# Altium footprint library PcbLib1.PcbLib: 42 footprints (part 2 of 3)
Each footprint in its own frame and in the unit in brackets; x right, y up, seen from the top. Pads: shape width x height; smd on the part's side, far side on the other; paste and mask are expansions set on the pad; w line width, h text height; cw(c..) or ccw(c..) is an arc to the next point about the centre after c.
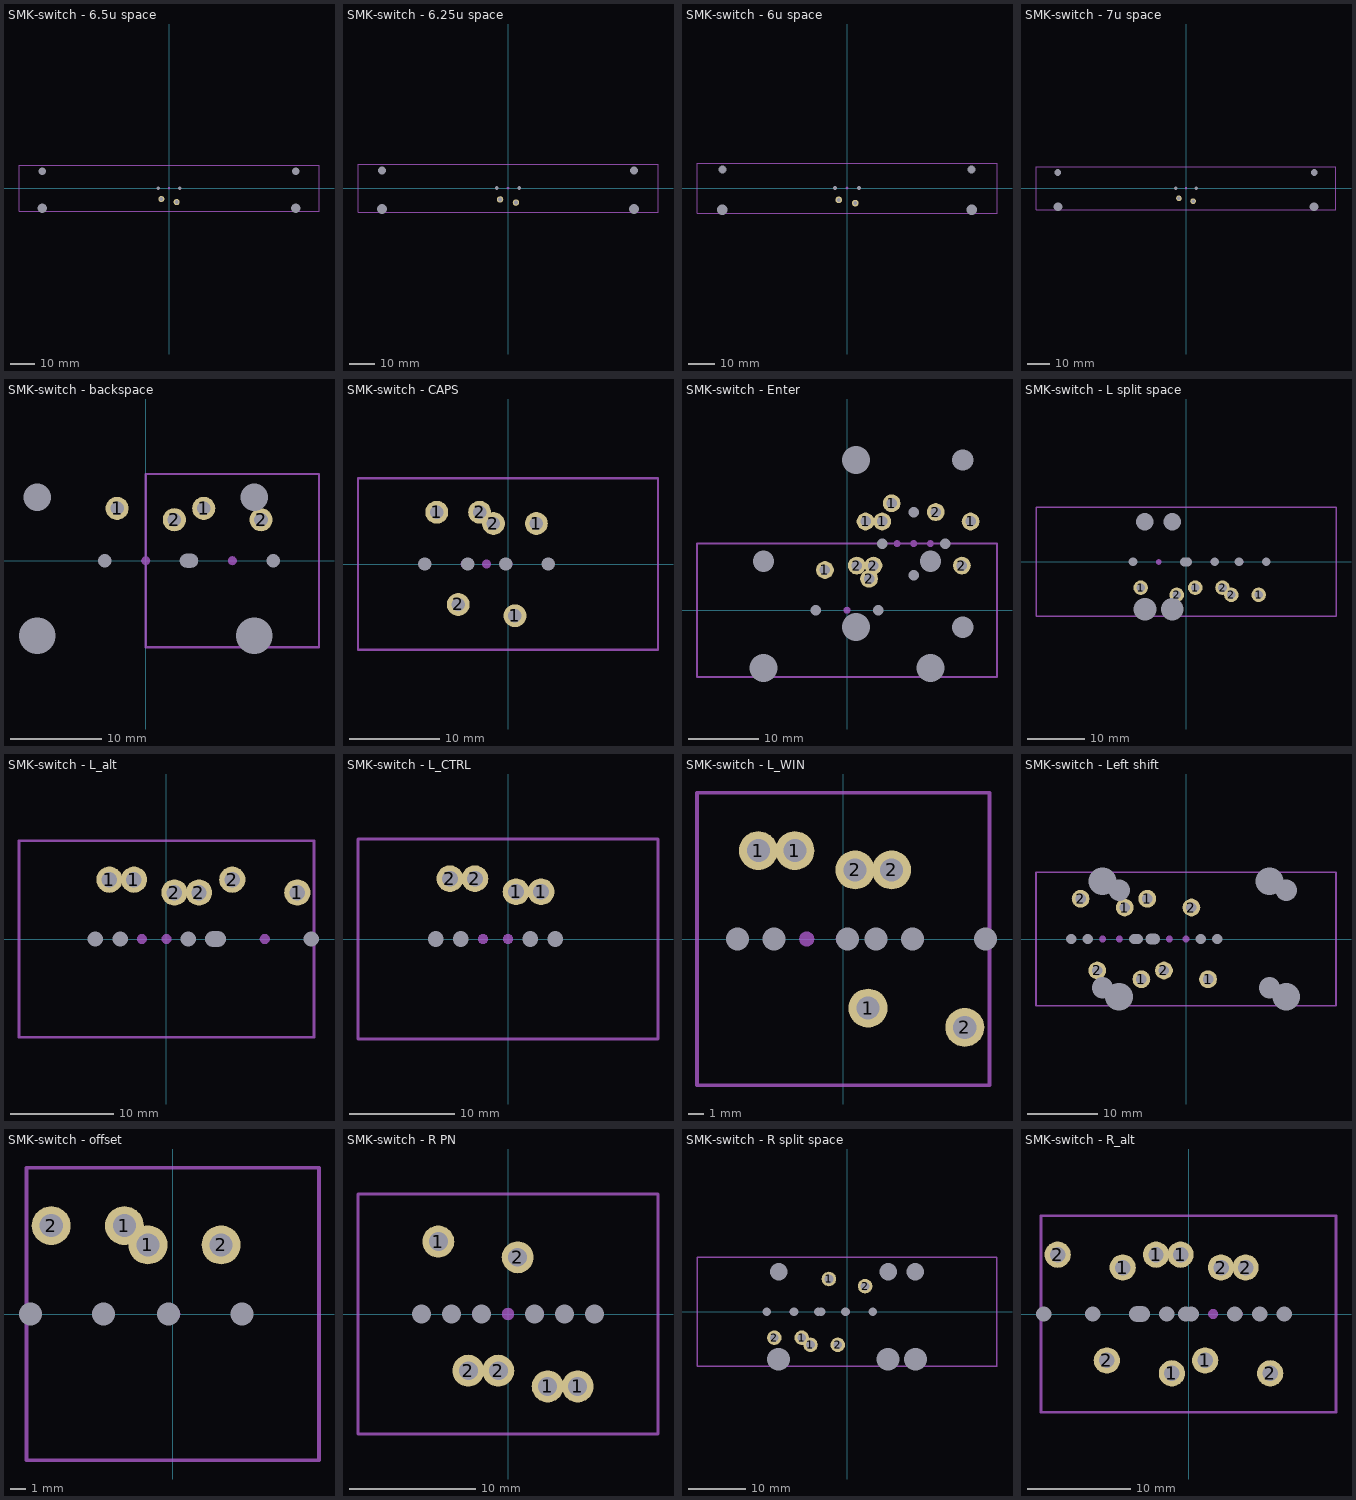
[diagram p1: the footprints below, top view; thin cyan lines are the x and y axes]

## SMK-switch - 6.5u space [mm]
pads (9):
  round 2.54 hole 1.499: 1(3.15,-5.75) 2(-3.15,-4.5)
  round 1.524 hole 3.988 unplated: ""(-52.25,-8.255) ""(52.25,-8.255)
  round 1.524 hole 3.048 unplated: ""(-52.25,6.985) ""(52.25,6.985)
  round 1 hole 1.5 unplated: ""(-4.5,0) ""(4.5,0)
  round 1 on Mech13: ""(0,0)
Mechanical 13:
  lines w0.254: -61.912,-9.525 -61.912,9.525 61.912,9.525 61.912,-9.525 -61.912,-9.525
  text ".Designator" at -3.575,-3.7 h0.7

## SMK-switch - 6.25u space [mm]
pads (9):
  round 2.54 hole 1.499: 1(3.15,-5.75) 2(-3.15,-4.5)
  round 1.524 hole 3.988 unplated: ""(-50,-8.255) ""(50,-8.255)
  round 1.524 hole 3.048 unplated: ""(-50,6.985) ""(50,6.985)
  round 1 hole 1.5 unplated: ""(-4.5,0) ""(4.5,0)
  round 1 on Mech13: ""(0,0)
Mechanical 13:
  lines w0.254: -59.531,-9.525 -59.531,9.525 59.531,9.525 59.531,-9.525 -59.531,-9.525
  text ".Designator" at -3.575,-3.7 h0.7

## SMK-switch - 6u space [mm]
pads (9):
  round 2.54 hole 1.499: 1(3.15,-5.75) 2(-3.15,-4.5)
  round 1.524 hole 3.988 unplated: ""(-47.5,-8.255) ""(47.5,-8.255)
  round 1.524 hole 3.048 unplated: ""(-47.5,6.985) ""(47.5,6.985)
  round 1 hole 1.5 unplated: ""(-4.5,0) ""(4.5,0)
  round 1 on Mech13: ""(0,0)
Mechanical 13:
  lines w0.254: -57.15,-9.525 57.15,-9.525 57.15,9.525 -57.15,9.525 -57.15,-9.525
  text ".Designator" at -3.575,-3.7 h0.7

## SMK-switch - 7u space [mm]
pads (9):
  round 2.54 hole 1.499: 1(3.15,-5.75) 2(-3.15,-4.5)
  round 1.524 hole 3.988 unplated: ""(-57,-8.255) ""(57,-8.255)
  round 1.524 hole 3.048 unplated: ""(-57,6.985) ""(57,6.985)
  round 1 hole 1.5 unplated: ""(-4.5,0) ""(4.5,0)
  round 1 on Mech13: ""(0,0)
Mechanical 13:
  lines w0.254: -66.675,-9.525 -66.675,9.525 66.675,9.525 66.675,-9.525 -66.675,-9.525
  text ".Designator" at -3.575,-3.7 h0.7

## SMK-switch - backspace [mm]
pads (13):
  round 2.54 hole 1.499: 1(-3.15,5.75) 1(6.375,5.75) 2(3.15,4.5) 2(12.675,4.5)
  round 1.524 hole 3.988 unplated: ""(-11.938,-8.255) ""(11.938,-8.255)
  round 1.524 hole 3.048 unplated: ""(-11.938,6.985) ""(11.938,6.985)
  round 1 hole 1.5 unplated: ""(-4.5,0) ""(14.025,0)
  round 1 on Mech13: ""(0,0) ""(9.525,0)
  round 1 hole 1.5 slot 2 at 0 deg unplated: ""(4.75,0)
Mechanical 13:
  lines w0.254: 0,-9.525 0,9.525 19.05,9.525 19.05,-9.525 0,-9.525
  text ".Designator" at 6.65,3.75 h0.7

## SMK-switch - CAPS [mm]
pads (13):
  round 2.54 hole 1.499: 1(-7.912,5.75) 1(0.769,-5.75) 1(3.15,4.5) 2(-5.531,-4.5) 2(-3.15,5.75) 2(-1.613,4.5)
  round 1 hole 1.5 unplated: ""(-9.263,0) ""(-4.5,0) ""(-0.262,0) ""(4.5,0)
  round 1 on Mech13: ""(-4.763,0) ""(-2.381,0) ""(0,0)
Mechanical 13:
  lines w0.254: -16.669,-9.525 -16.669,9.525 16.669,9.525 16.669,-9.525 ; -16.669,-9.525 16.669,-9.525 ; -16.669,-9.525 16.669,-9.525
  text ".Designator" at -7.85,-7.5 h0.7

## SMK-switch - Enter [mm]
pads (28):
  round 2.54 hole 1.499: 1(-3.15,5.75) 1(2.649,12.68) 1(5.03,12.68) 1(6.38,15.28) 1(17.661,12.68) 2(1.399,6.38) 2(3.15,4.5) 2(3.78,6.38) 2(12.68,14.03) 2(16.411,6.38)
  round 1.524 hole 3.988 unplated: ""(-11.938,-8.255) ""(1.275,-2.408) ""(1.275,21.468) ""(11.938,-8.255)
  round 1.524 hole 3.048 unplated: ""(-11.938,6.985) ""(11.938,6.985) ""(16.515,-2.408) ""(16.515,21.468)
  round 1 hole 1.5 unplated: ""(-4.5,0) ""(4.5,0) ""(5.03,9.53) ""(9.53,5.03) ""(9.53,14.03) ""(14.03,9.53)
  round 1 on Mech13: ""(0,0) ""(7.149,9.53) ""(9.53,9.53) ""(11.911,9.53)
Mechanical 13:
  lines w0.254: -21.431,-9.525 21.431,-9.525 21.431,9.525 -21.431,9.525 -21.431,-9.525
  text ".Designator" at 7.85,1.8 h0.7

## SMK-switch - L split space [mm]
pads (18):
  round 2.54 hole 1.499: 1(-7.912,-4.5) 1(1.613,-4.5) 1(12.675,-5.75) 2(-1.613,-5.75) 2(6.375,-4.5) 2(7.912,-5.75)
  round 1 hole 1.5 unplated: ""(-9.263,0) ""(5.025,0) ""(9.263,0) ""(14.025,0)
  round 1.524 hole 3.988 unplated: ""(-7.175,-8.255) ""(-2.413,-8.255)
  round 1.524 hole 3.048 unplated: ""(-7.175,6.985) ""(-2.413,6.985)
  round 1 on Mech13: ""(-4.763,0) ""(4.763,0) ""(9.525,0)
  round 1 hole 1.5 slot 2 at 0 deg unplated: ""(0,0)
Mechanical 13:
  lines w0.254: -26.194,-9.525 26.194,-9.525 26.194,9.525 -26.194,9.525 -26.194,-9.525
  text ".Designator" at -10.525,-4.125 h0.7

## SMK-switch - L_alt [mm]
pads (14):
  round 2.54 hole 1.499: 1(-5.531,5.75) 1(-3.15,5.75) 1(12.675,4.5) 2(0.769,4.5) 2(3.15,4.5) 2(6.375,5.75)
  round 1 hole 1.5 unplated: ""(-6.881,0) ""(-4.5,0) ""(2.119,0) ""(14.025,0)
  round 1 on Mech13: ""(-2.381,0) ""(0,0) ""(9.525,0)
  round 1 hole 1.5 slot 2 at 0 deg unplated: ""(4.75,0)
Mechanical 13:
  lines w0.254: -14.287,-9.525 -14.287,9.525 14.287,9.525 14.287,-9.525 -14.287,-9.525
  text ".Designator" at 2.9,2.625 h0.7

## SMK-switch - L_CTRL [mm]
pads (10):
  round 2.54 hole 1.499: 1(0.769,4.5) 1(3.15,4.5) 2(-5.531,5.75) 2(-3.15,5.75)
  round 1 hole 1.5 unplated: ""(-6.881,0) ""(-4.5,0) ""(2.119,0) ""(4.5,0)
  round 1 on Mech13: ""(-2.381,0) ""(0,0)
Mechanical 13:
  lines w0.254: -14.287,-9.525 14.287,-9.525 14.287,9.525 -14.287,9.525 -14.287,-9.525
  text ".Designator" at 2.75,2.35 h0.7

## SMK-switch - L_WIN [mm]
pads (15):
  round 2.54 hole 1.499: 1(-5.531,5.75) 1(-3.15,5.75) 1(1.613,-4.5) 2(0.769,4.5) 2(3.15,4.5) 2(7.912,-5.75)
  round 1 hole 1.5 unplated: ""(-6.881,0) ""(-4.5,0) ""(0.262,0) ""(2.119,0) ""(4.5,0) ""(9.263,0)
  round 1 on Mech13: ""(-2.381,0) ""(0,0) ""(4.763,0)
Mechanical 13:
  lines w0.254: -9.525,-9.525 9.525,-9.525 9.525,9.525 -9.525,9.525 -9.525,-9.525
  text ".Designator" at -1.925,-7.85 h0.7

## SMK-switch - Left shift [mm]
pads (27):
  round 2.54 hole 1.499: 1(-8.756,4.5) 1(-6.375,-5.75) 1(-5.531,5.75) 1(3.15,-5.75) 2(-15.056,5.75) 2(-12.675,-4.5) 2(-3.15,-4.5) 2(0.769,4.5)
  round 1 hole 1.5 unplated: ""(-16.406,0) ""(-14.025,0) ""(-7.406,0) ""(-6.881,0) ""(2.119,0) ""(4.5,0)
  round 1.524 hole 3.048 unplated: ""(-11.938,-6.985) ""(-9.557,6.985) ""(11.938,-6.985) ""(14.319,6.985)
  round 1.524 hole 3.988 unplated: ""(-11.938,8.255) ""(-9.557,-8.255) ""(11.938,8.255) ""(14.319,-8.255)
  round 1 on Mech13: ""(-11.906,0) ""(-9.525,0) ""(-2.381,0) ""(0,0)
  round 1 hole 1.5 slot 2 at 0 deg unplated: ""(-4.75,0)
Mechanical 13:
  lines w0.254: -21.431,-9.525 -21.431,9.525 21.431,9.525 21.431,-9.525 -21.431,-9.525
  text ".Designator" at -5.45,-3.925 h0.7

## SMK-switch - offset [mm]
pads (10):
  round 2.54 hole 1.499: 1(-3.15,5.75) 1(-1.613,4.5) 2(-7.912,5.75) 2(3.15,4.5)
  round 1 hole 1.5 unplated: ""(-9.263,0) ""(-4.5,0) ""(-0.262,0) ""(4.5,0)
  round 1 on Mech13: ""(-4.763,0) ""(0,0)
Mechanical 13:
  lines w0.254: -9.525,-9.525 -9.525,9.525 9.525,9.525 9.525,-9.525 -9.525,-9.525
  text ".Designator" at -3.575,-3.7 h0.7

## SMK-switch - R PN [mm]
pads (15):
  round 2.54 hole 1.499: 1(-5.531,5.75) 1(3.15,-5.75) 1(5.531,-5.75) 2(-3.15,-4.5) 2(-0.769,-4.5) 2(0.769,4.5)
  round 1 hole 1.5 unplated: ""(-6.881,0) ""(-4.5,0) ""(-2.119,0) ""(2.119,0) ""(4.5,0) ""(6.881,0)
  round 1 on Mech13: ""(-2.381,0) ""(0,0) ""(2.381,0)
Mechanical 13:
  lines w0.254: -11.906,-9.525 11.906,-9.525 11.906,9.525 -11.906,9.525 -11.906,-9.525
  text ".Designator" at -9.375,-8.1 h0.7

## SMK-switch - R split space [mm]
pads (22):
  round 2.54 hole 1.499: 1(-7.912,-4.5) 1(-6.375,-5.75) 1(-3.15,5.75) 2(-12.675,-4.5) 2(-1.613,-5.75) 2(3.15,4.5)
  round 1 hole 1.5 unplated: ""(-14.025,0) ""(-9.263,0) ""(-5.025,0) ""(-4.5,0) ""(-0.262,0) ""(4.5,0)
  round 1.524 hole 3.988 unplated: ""(-11.938,-8.255) ""(7.175,-8.255) ""(11.938,-8.255)
  round 1.524 hole 3.048 unplated: ""(-11.938,6.985) ""(7.175,6.985) ""(11.938,6.985)
  round 1 on Mech13: ""(-9.525,0) ""(-4.763,0) ""(0,0) ""(0,0)
Mechanical 13:
  lines w0.254: -26.194,-9.525 -26.194,9.525 26.194,9.525 26.194,-9.525 -26.194,-9.525
  text ".Designator" at 7.675,-3.725 h0.7

## SMK-switch - R_alt [mm]
pads (24):
  round 2.54 hole 1.499: 1(-6.375,4.5) 1(-3.15,5.75) 1(-1.613,-5.75) 1(-0.769,5.75) 1(1.613,-4.5) 2(-12.675,5.75) 2(-7.912,-4.5) 2(3.15,4.5) 2(5.531,4.5) 2(7.912,-5.75)
  round 1 hole 1.5 unplated: ""(-14.025,0) ""(-9.263,0) ""(-2.119,0) ""(-0.262,0) ""(0.262,0) ""(4.5,0) ""(6.881,0) ""(9.263,0)
  round 1 on Mech13: ""(-9.525,0) ""(-4.763,0) ""(0,0) ""(2.381,0) ""(4.763,0)
  round 1 hole 1.5 slot 2 at 0 deg unplated: ""(-4.75,0)
Mechanical 13:
  lines w0.254: -14.287,-9.525 14.287,-9.525 14.287,9.525 -14.287,9.525 -14.287,-9.525
  text ".Designator" at -10.775,-6.175 h0.7